# Altium footprint library Housing, PADP-10V-1-S.PcbLib: 1 footprints
Each footprint in its own frame and in the unit in brackets; x right, y up, seen from the top. Pads: shape width x height; smd on the part's side, far side on the other; paste and mask are expansions set on the pad; w line width, h text height; cw(c..) or ccw(c..) is an arc to the next point about the centre after c.

## Housing, PADP-10V-1-S [mm] "Housing, PADP-10V-1-S"
3D body "JST - PA -2x5 - Through Hole, Side Entry - PADP-10V-1-S.step": height 9.2, standoff -0.8, extent -6,-5.5 6,5.5